# Altium footprint library AD9837ACPZ-RL.PcbLib: 3 footprints
Each footprint in its own frame and in the unit in brackets; x right, y up, seen from the top. Pads: shape width x height; smd on the part's side, far side on the other; paste and mask are expansions set on the pad; w line width, h text height; cw(c..) or ccw(c..) is an arc to the next point about the centre after c.
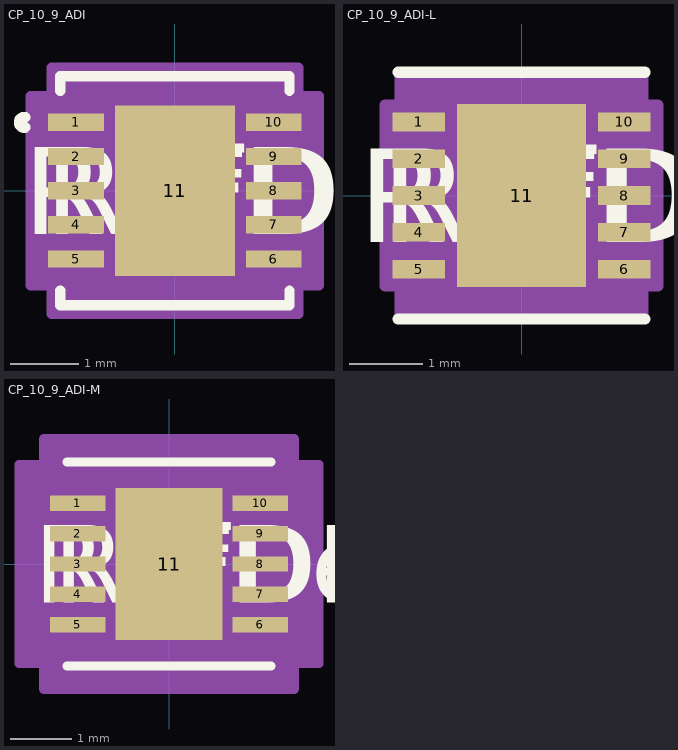
[diagram p0: the footprints below, top view; thin cyan lines are the x and y axes]

## CP_10_9_ADI [mil]
pads (11):
  rect 32x10 smd paste+0 mask+0: 1(-57,39.37) 2(-57,19.68) 3(-57,0) 4(-57,-19.68) 5(-57,-39.37) 6(57,-39.37) 7(57,-19.68) 8(57,0) 9(57,19.68) 10(57,39.37)
  rect 69x98 smd paste+0 mask+0: 11(0,0)
Top Overlay:
  lines w6: -86.1,36.46 cw(c-86.84,39.37) -86.1,42.28 ; -66,-57.47 -66,-66 66,-66 66,-57.47 ; -66,57.47 -66,66 66,66 66,57.47
  text "RefDes" at -75,-25 h50
  text "REFDES" at -87.5,-25 h50
Mechanical 13:
  lines w0: -12,61 ccw(c0,61) 12,61
  lines w1: -61,-61 61,-61 61,61 -61,61 -61,-61
  text "RefDes2" at -87.5,-25 h50
Mechanical 15:
  region: -71,-54.37 -83,-54.37 -83,54.37 -71,54.37 -71,71 71,71 71,54.37 83,54.37 83,-54.37 71,-54.37 71,-71 -71,-71
  lines w6: -83,-54.37 -83,54.37 -71,54.37 -71,71 71,71 71,54.37 83,54.37 83,-54.37 71,-54.37 71,-71 -71,-71 -71,-54.37 -83,-54.37
3D body "CP_10_9_ADI.step": height 31.1, standoff 0, extent -60.98,-60.98 60.98,60.98

## CP_10_9_ADI-L [mil]
pads (11):
  rect 28x10 smd paste+0 mask+0: 1(-55,39.37) 2(-55,19.68) 3(-55,0) 4(-55,-19.68) 5(-55,-39.37) 6(55,-39.37) 7(55,-19.68) 8(55,0) 9(55,19.68) 10(55,39.37)
  rect 69x98 smd paste+0 mask+0: 11(0,0)
Top Overlay:
  lines w6: -66,-66 66,-66 ; -66,66 66,66
  text "RefDes" at -75,-25 h50
  text "REFDES" at -87.5,-25 h50
Mechanical 13:
  lines w0: -12,61 ccw(c0,61) 12,61
  lines w1: -61,-61 61,-61 61,61 -61,61 -61,-61
  text "RefDes2" at -87.5,-25 h50
Mechanical 15:
  region: -65,-48.37 -73,-48.37 -73,48.37 -65,48.37 -65,65 65,65 65,48.37 73,48.37 73,-48.37 65,-48.37 65,-65 -65,-65
  lines w6: -73,-48.37 -73,48.37 -65,48.37 -65,65 65,65 65,48.37 73,48.37 73,-48.37 65,-48.37 65,-65 -65,-65 -65,-48.37 -73,-48.37
3D body "CP_10_9_ADI.step": height 31.1, standoff 0, extent -60.98,-60.98 60.98,60.98

## CP_10_9_ADI-M [mil]
pads (11):
  rect 36x10 smd paste+0 mask+0: 1(-59,39.37) 2(-59,19.68) 3(-59,0) 4(-59,-19.68) 5(-59,-39.37) 6(59,-39.37) 7(59,-19.68) 8(59,0) 9(59,19.68) 10(59,39.37)
  rect 69x98 smd paste+0 mask+0: 11(0,0)
Top Overlay:
  lines w6: -66,-66 66,-66 ; -66,66 66,66
  text "RefDes" at -75,-25 h50
  text "REFDES" at -87.5,-25 h50
Mechanical 13:
  lines w0: -12,61 ccw(c0,61) 12,61
  lines w1: -61,-61 61,-61 61,61 -61,61 -61,-61
  text "RefDes2" at -87.5,-25 h50
Mechanical 15:
  region: -81,-64.37 -97,-64.37 -97,64.37 -81,64.37 -81,81 81,81 81,64.37 97,64.37 97,-64.37 81,-64.37 81,-81 -81,-81
  lines w6: -97,-64.37 -97,64.37 -81,64.37 -81,81 81,81 81,64.37 97,64.37 97,-64.37 81,-64.37 81,-81 -81,-81 -81,-64.37 -97,-64.37
3D body "CP_10_9_ADI.step": height 31.1, standoff 0, extent -60.98,-60.98 60.98,60.98